# Altium schematic symbol library Connector_Generic.SchLib: 38 symbols
Pins are listed as number, name and electrical type; pins without a type are passive.

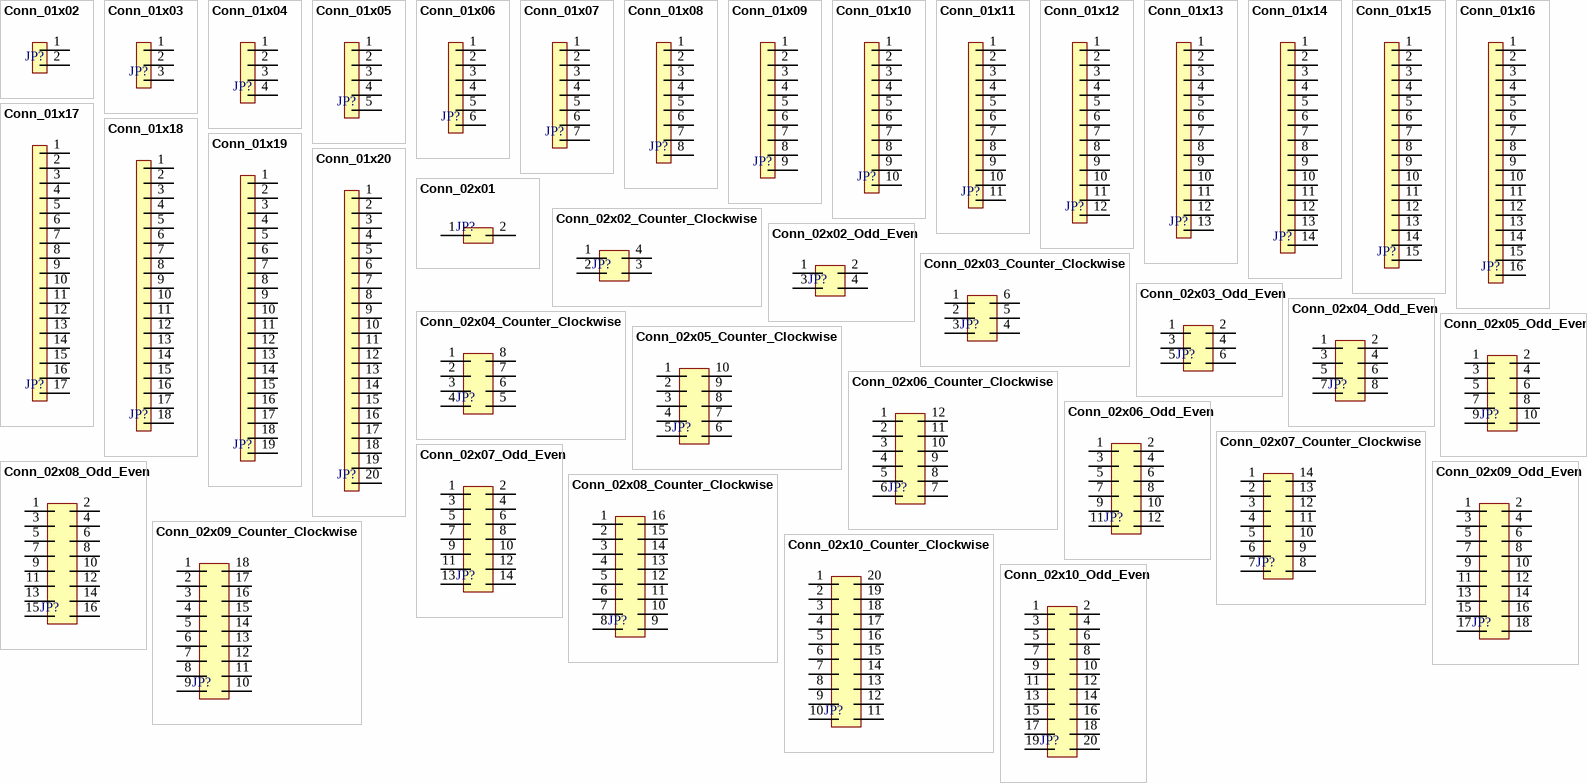
[diagram p0: symbols Conn_01x02 to Conn_02x10_Odd_Even]

## Conn_01x02
designator JP?  (value not drawn)
Connector 01x02
pins: 1, 2

## Conn_01x03
designator JP?  (value not drawn)
Connector 01x03
pins: 1, 2, 3

## Conn_01x04
designator JP?  (value not drawn)
Connector 01x04
pins: 1, 2, 3, 4

## Conn_01x05
designator JP?  (value not drawn)
Connector 01x05
pins: 1, 2, 3, 4, 5

## Conn_01x06
designator JP?  (value not drawn)
Connector 01x06
pins: 1, 2, 3, 4, 5, 6

## Conn_01x07
designator JP?  (value not drawn)
Connector 01x07
pins: 1, 2, 3, 4, 5, 6, 7

## Conn_01x08
designator JP?  (value not drawn)
Connector 01x08
pins: 1, 2, 3, 4, 5, 6, 7, 8

## Conn_01x09
designator JP?  (value not drawn)
Connector 01x09
pins: 1, 2, 3, 4, 5, 6, 7, 8, 9

## Conn_01x10
designator JP?  (value not drawn)
Connector 01x10
pins: 1, 2, 3, 4, 5, 6, 7, 8, 9, 10

## Conn_01x11
designator JP?  (value not drawn)
Connector 01x11
pins: 1, 2, 3, 4, 5, 6, 7, 8, 9, 10, 11

## Conn_01x12
designator JP?  (value not drawn)
Connector 01x12
pins: 1, 2, 3, 4, 5, 6, 7, 8, 9, 10, 11, 12

## Conn_01x13
designator JP?  (value not drawn)
Connector 01x13
pins: 1, 2, 3, 4, 5, 6, 7, 8, 9, 10, 11, 12, 13

## Conn_01x14
designator JP?  (value not drawn)
Connector 01x14
pins: 1, 2, 3, 4, 5, 6, 7, 8, 9, 10, 11, 12, 13, 14

## Conn_01x15
designator JP?  (value not drawn)
Connector 01x15
pins: 1, 2, 3, 4, 5, 6, 7, 8, 9, 10, 11, 12, 13, 14, 15

## Conn_01x16
designator JP?  (value not drawn)
Connector 01x16
pins: 1, 2, 3, 4, 5, 6, 7, 8, 9, 10, 11, 12, 13, 14, 15, 16

## Conn_01x17
designator JP?  (value not drawn)
Connector 01x17
pins: 1, 2, 3, 4, 5, 6, 7, 8, 9, 10, 11, 12, 13, 14, 15, 16, 17

## Conn_01x18
designator JP?  (value not drawn)
Connector 01x18
pins: 1, 2, 3, 4, 5, 6, 7, 8, 9, 10, 11, 12, 13, 14, 15, 16, 17, 18

## Conn_01x19
designator JP?  (value not drawn)
Connector 01x19
pins: 1, 2, 3, 4, 5, 6, 7, 8, 9, 10, 11, 12, 13, 14, 15, 16, 17, 18, 19

## Conn_01x20
designator JP?  (value not drawn)
Connector 01x20
pins: 1, 2, 3, 4, 5, 6, 7, 8, 9, 10, 11, 12, 13, 14, 15, 16, 17, 18, 19, 20

## Conn_02x01
designator JP?  (value not drawn)
Connector 02x01
pins: 1, 2

## Conn_02x02_Counter_Clockwise
designator JP?  (value not drawn)
Connector 02x02 counter clockwise
pins: 1, 2, 3, 4

## Conn_02x02_Odd_Even
designator JP?  (value not drawn)
Connector 02x02 odd even
pins: 1, 2, 3, 4

## Conn_02x03_Counter_Clockwise
designator JP?  (value not drawn)
Connector 02x03 counter clockwise
pins: 1, 2, 3, 4, 5, 6

## Conn_02x03_Odd_Even
designator JP?  (value not drawn)
Connector 02x03 odd even
pins: 1, 2, 3, 4, 5, 6

## Conn_02x04_Counter_Clockwise
designator JP?  (value not drawn)
Connector 02x04 counter clockwise
pins: 1, 2, 3, 4, 5, 6, 7, 8

## Conn_02x04_Odd_Even
designator JP?  (value not drawn)
Connector 02x04 odd even
pins: 1, 2, 3, 4, 5, 6, 7, 8

## Conn_02x05_Counter_Clockwise
designator JP?  (value not drawn)
Connector 02x05 counter clockwise
pins: 1, 2, 3, 4, 5, 6, 7, 8, 9, 10

## Conn_02x05_Odd_Even
designator JP?  (value not drawn)
Connector 02x05 odd even
pins: 1, 2, 3, 4, 5, 6, 7, 8, 9, 10

## Conn_02x06_Counter_Clockwise
designator JP?  (value not drawn)
Connector 02x06 counter clockwise
pins: 1, 2, 3, 4, 5, 6, 7, 8, 9, 10, 11, 12

## Conn_02x06_Odd_Even
designator JP?  (value not drawn)
Connector 02x06 odd even
pins: 1, 2, 3, 4, 5, 6, 7, 8, 9, 10, 11, 12

## Conn_02x07_Counter_Clockwise
designator JP?  (value not drawn)
Connector 02x07 counter clockwise
pins: 1, 2, 3, 4, 5, 6, 7, 8, 9, 10, 11, 12, 13, 14

## Conn_02x07_Odd_Even
designator JP?  (value not drawn)
Connector 02x07 odd even
pins: 1, 2, 3, 4, 5, 6, 7, 8, 9, 10, 11, 12, 13, 14

## Conn_02x08_Counter_Clockwise
designator JP?  (value not drawn)
Connector 02x08 counter clockwise
pins: 1, 2, 3, 4, 5, 6, 7, 8, 9, 10, 11, 12, 13, 14, 15, 16

## Conn_02x08_Odd_Even
designator JP?  (value not drawn)
Connector 02x08 odd even
pins: 1, 2, 3, 4, 5, 6, 7, 8, 9, 10, 11, 12, 13, 14, 15, 16

## Conn_02x09_Counter_Clockwise
designator JP?  (value not drawn)
Connector 02x09 counter clockwise
pins: 1, 2, 3, 4, 5, 6, 7, 8, 9, 10, 11, 12, 13, 14, 15, 16, 17, 18

## Conn_02x09_Odd_Even
designator JP?  (value not drawn)
Connector 02x09 odd even
pins: 1, 2, 3, 4, 5, 6, 7, 8, 9, 10, 11, 12, 13, 14, 15, 16, 17, 18

## Conn_02x10_Counter_Clockwise
designator JP?  (value not drawn)
Connector 02x10 counter clockwise
pins: 1, 2, 3, 4, 5, 6, 7, 8, 9, 10, 11, 12, 13, 14, 15, 16, 17, 18, 19, 20

## Conn_02x10_Odd_Even
designator JP?  (value not drawn)
Connector 02x10 odd even
pins: 1, 2, 3, 4, 5, 6, 7, 8, 9, 10, 11, 12, 13, 14, 15, 16, 17, 18, 19, 20